# Altium schematic symbol library XS_5P.Schlib: 1 symbol
Pins are listed as number, name and electrical type; pins without a type are passive.

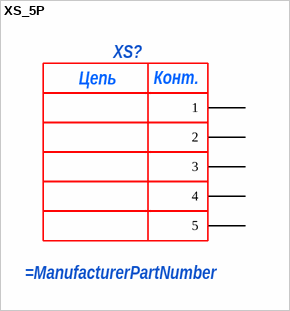
[diagram p0: symbol XS_5P]

## XS_5P
designator XS?
pins: 1, 2, 3, 4, 5
text: Цепь; Конт.